# Altium schematic symbol library AT25DF041B-MAHN-T.SchLib: 1 symbol
Pins are listed as number, name and electrical type; pins without a type are passive.

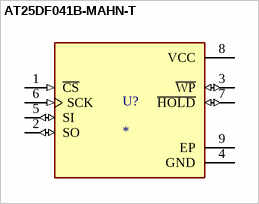
[diagram p0: symbol AT25DF041B-MAHN-T]

## AT25DF041B-MAHN-T
designator U?
MF: {'manufacturer': u'Dialog Semiconductor'}; MP: AT25DF041B-MAHN-T; Package: None; Price: None; Value: *; Availability: Unavailable
footprint PSON50P200X300X60-9N
pins: 1 ~{CS} (in), 2 SO (io), 3 ~{WP} (io), 4 GND (power), 5 SI (io), 6 SCK (in), 7 ~{HOLD} (io), 8 VCC (power), 9 EP